# Altium schematic symbol library AT27C512R-70PU.SchLib: 1 symbol
Pins are listed as number, name and electrical type; pins without a type are passive.

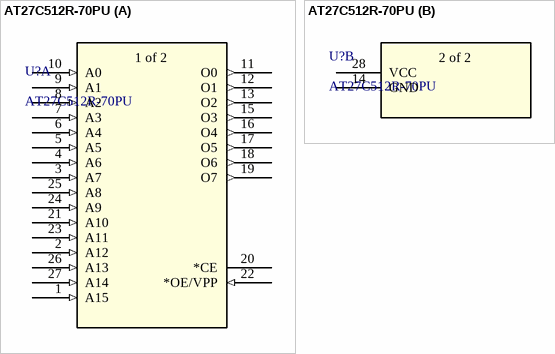
[diagram p0: symbol AT27C512R-70PU]

## AT27C512R-70PU
designator U?
No Description Available; Manufacturer_Name: Microchip; Copyright: Copyright (C) 2025 Ultra Librarian. All rights reserved.; Manufacturer_Part_Number: AT27C512R-70PU; RefDes: RefDes; Type: Type
footprint 28P6_ATM
part A pins: 1 A15 (in), 2 A12 (in), 3 A7 (in), 4 A6 (in), 5 A5 (in), 6 A4 (in), 7 A3 (in), 8 A2 (in), 9 A1 (in), 10 A0 (in), 11 O0 (out), 12 O1 (out), 13 O2 (out), 15 O3 (out), 16 O4 (out), 17 O5 (out), 18 O6 (out), 19 O7 (out), 20 *CE, 21 A10 (in), 22 *OE/VPP (in), 23 A11 (in), 24 A9 (in), 25 A8 (in), 26 A13 (in), 27 A14 (in)
part B pins: 14 GND (power), 28 VCC (power)
part A text: 1 of 2
part B text: 2 of 2